# Altium schematic symbol library SCH - CONNECTOR - RJ45 - AMPHENOL RJMG201K2.SCHLIB: 1 symbol
Pins are listed as number, name and electrical type; pins without a type are passive.

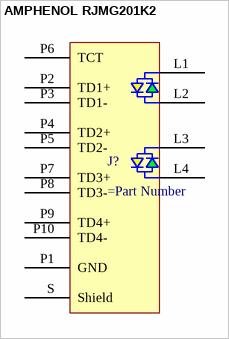
[diagram p0: symbol AMPHENOL RJMG201K2]

## AMPHENOL RJMG201K2
designator J?
pins: L1 11, L2 12, L3 13, L4 14, P1 GND, P2 TD1+, P3 TD1-, P4 TD2+, P5 TD2-, P6 TCT, P7 TD3+, P8 TD3- (power), P9 TD4+, P10 TD4- (power), S Shield